# Altium schematic symbol library 2020-07-10_01-58-29.SchLib: 2 symbols
Pins are listed as number, name and electrical type; pins without a type are passive.

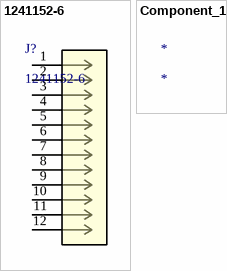
[diagram p0: symbols 1241152-6 to Component_1]

## 1241152-6
designator J?
No Description Available; Vendor: TE Connectivity; Built_By: EMA_UL_Team; SourceLibrary: Tyco_2012-1-03; Manufacturer_Part_Number: 1241152-6; Copyright: Copyright (C) 2016 Accelerated Designs. All rights reserved; RefDes: RefDes; Type: DEV
footprint CONN_1241152-6_T
pins: 1, 2, 3, 4, 5, 6, 7, 8, 9, 10, 11, 12

## Component_1
designator *